# EAGLE library part EEPROM (library JeeLabs)
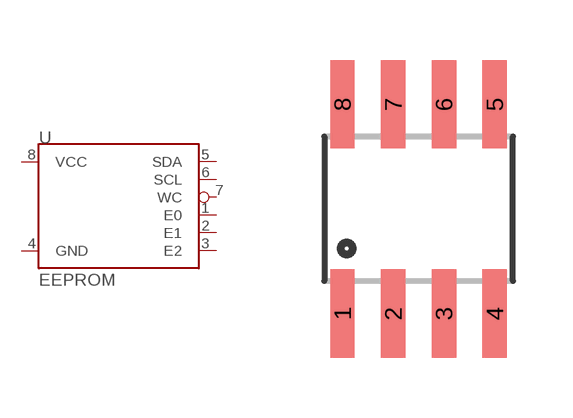
[diagram p1: symbol with the pads of SO08; footprint SO08]

Designator prefix -

## EEPROMSOIC  [SO08]
1  E0
2  E1
3  E2
4  GND
5  SDA
6  SCL
7  WC
8  VCC

## Footprint SO08 (pad centres in mm)
Small Outline Package Fits JEDEC packages (narrow SOIC-8)
smd 0.61 x 2.21: 1 -1.905,-2.616; 2 -0.635,-2.616; 3 0.635,-2.616; 4 1.905,-2.616; 5 1.905,2.616; 6 0.635,2.616; 7 -0.635,2.616; 8 -1.905,2.616